# Altium footprint library ESP32-C3-MINI-1.PcbLib: 1 footprints
Each footprint in its own frame and in the unit in brackets; x right, y up, seen from the top. Pads: shape width x height; smd on the part's side, far side on the other; paste and mask are expansions set on the pad; w line width, h text height; cw(c..) or ccw(c..) is an arc to the next point about the centre after c.
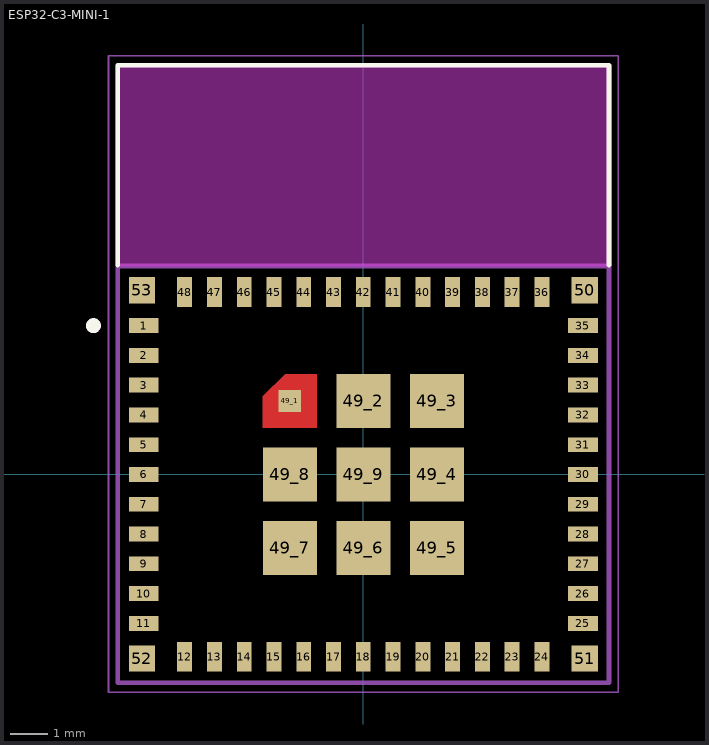
[diagram p0: the footprint, top view; thin cyan lines are the x and y axes]

## ESP32-C3-MINI-1 [mm]
pads (61):
  rect 0.8x0.4 smd: 1(-5.9,4) 2(-5.9,3.2) 3(-5.9,2.4) 4(-5.9,1.6) 5(-5.9,0.8) 6(-5.9,0) 7(-5.9,-0.8) 8(-5.9,-1.6) 9(-5.9,-2.4) 10(-5.9,-3.2) 11(-5.9,-4) 25(5.9,-4) 26(5.9,-3.2) 27(5.9,-2.4) 28(5.9,-1.6) 29(5.9,-0.8) 30(5.9,0) 31(5.9,0.8) 32(5.9,1.6) 33(5.9,2.4) 34(5.9,3.2) 35(5.9,4)
  rect 0.4x0.8 smd: 12(-4.8,-4.9) 13(-4,-4.9) 14(-3.2,-4.9) 15(-2.4,-4.9) 16(-1.6,-4.9) 17(-0.8,-4.9) 18(0,-4.9) 19(0.8,-4.9) 20(1.6,-4.9) 21(2.4,-4.9) 22(3.2,-4.9) 23(4,-4.9) 24(4.8,-4.9) 36(4.8,4.9) 37(4,4.9) 38(3.2,4.9) 39(2.4,4.9) 40(1.6,4.9) 41(0.8,4.9) 42(0,4.9) 43(-0.8,4.9) 44(-1.6,4.9) 45(-2.4,4.9) 46(-3.2,4.9) 47(-4,4.9) 48(-4.8,4.9)
  rect 0.6x0.6 smd paste-1 mask+0: 49_1(-1.975,1.975)
  rect 1.45x1.45 smd: 49_2(0,1.975) 49_3(1.975,1.975) 49_4(1.975,0) 49_5(1.975,-1.975) 49_6(0,-1.975) 49_7(-1.975,-1.975) 49_8(-1.975,0) 49_9(0,0)
  rect 0.7x0.7 smd: 50(5.95,4.95) 51(5.95,-4.95) 52(-5.95,-4.95) 53(-5.95,4.95)
Top Layer:
  region: -1.25,1.25 -2.7,1.25 -2.7,2.1 -2.1,2.7 -1.25,2.7
Top Overlay:
  circle w0.2: c-7.25,4 r0.1
  lines w0.127: -6.6,5.62 -6.6,11 6.6,11 6.6,5.62
Top Paste:
  region: -1.25,1.25 -2.7,1.25 -2.7,2.1 -2.1,2.7 -1.25,2.7
Top Solder:
  region: -1.15,1.15 -2.8,1.15 -2.8,2.14 -2.14,2.8 -1.15,2.8
Keep-Out Layer:
  region: 6.6,5.6 -6.6,5.6 -6.6,11 6.6,11
  region: 6.6,5.6 -6.6,5.6 -6.6,11 6.6,11
Mechanical 13:
  circle w0.2: c-7.25,4 r0.1
  lines w0.127: -6.6,5.6 6.6,5.6 ; -6.6,5.6 -6.6,11 6.6,11 6.6,5.6 ; -6.6,5.6 -6.6,-5.6 6.6,-5.6 6.6,5.6
Mechanical 15:
  lines w0.05: -6.85,-5.85 6.85,-5.85 6.85,11.25 -6.85,11.25 -6.85,-5.85
3D body "ESP32-C3-MINI-1-N4--3DModel-STEP-418109.STEP": height 2.56, standoff 0.01, extent -6.6,-5.6 6.6,11